# EAGLE library part MAX31855 (library miller)
MAX31855 Thermocouple amplifier with cold junction compensation, SPI communication Maxim-ic PN MAX31855 (thermocouple code is appended at end of PN) Digikey PN MAX31855K, MAX31855T, MAX31855J etc. Surface mount, 8-SOIC Narrow, 3.0 to 3.6V supply
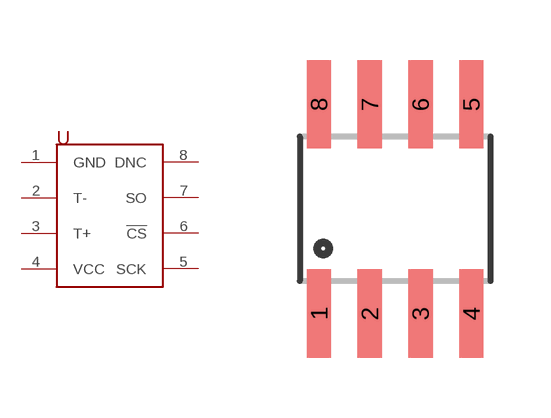
[diagram p26: symbol with the pads of SO08; footprint SO08]

Designator prefix -

## MAX31855  [SO08]
1  GND  pwr
2  T-  in
3  T+  in
4  VCC  pwr
5  SCK
6  !CS
7  SO
8  DNC  nc

## Footprint SO08 (pad centres in mm)
Small Outline Package Fits JEDEC packages (narrow SOIC-8)
smd 0.61 x 2.21: 1 -1.905,-2.616; 2 -0.635,-2.616; 3 0.635,-2.616; 4 1.905,-2.616; 5 1.905,2.616; 6 0.635,2.616; 7 -0.635,2.616; 8 -1.905,2.616